# Altium footprint library HyTechDevices.PCBLIB: 204 footprints (part 6 of 13)
Each footprint in its own frame and in the unit in brackets; x right, y up, seen from the top. Pads: shape width x height; smd on the part's side, far side on the other; paste and mask are expansions set on the pad; w line width, h text height; cw(c..) or ccw(c..) is an arc to the next point about the centre after c.
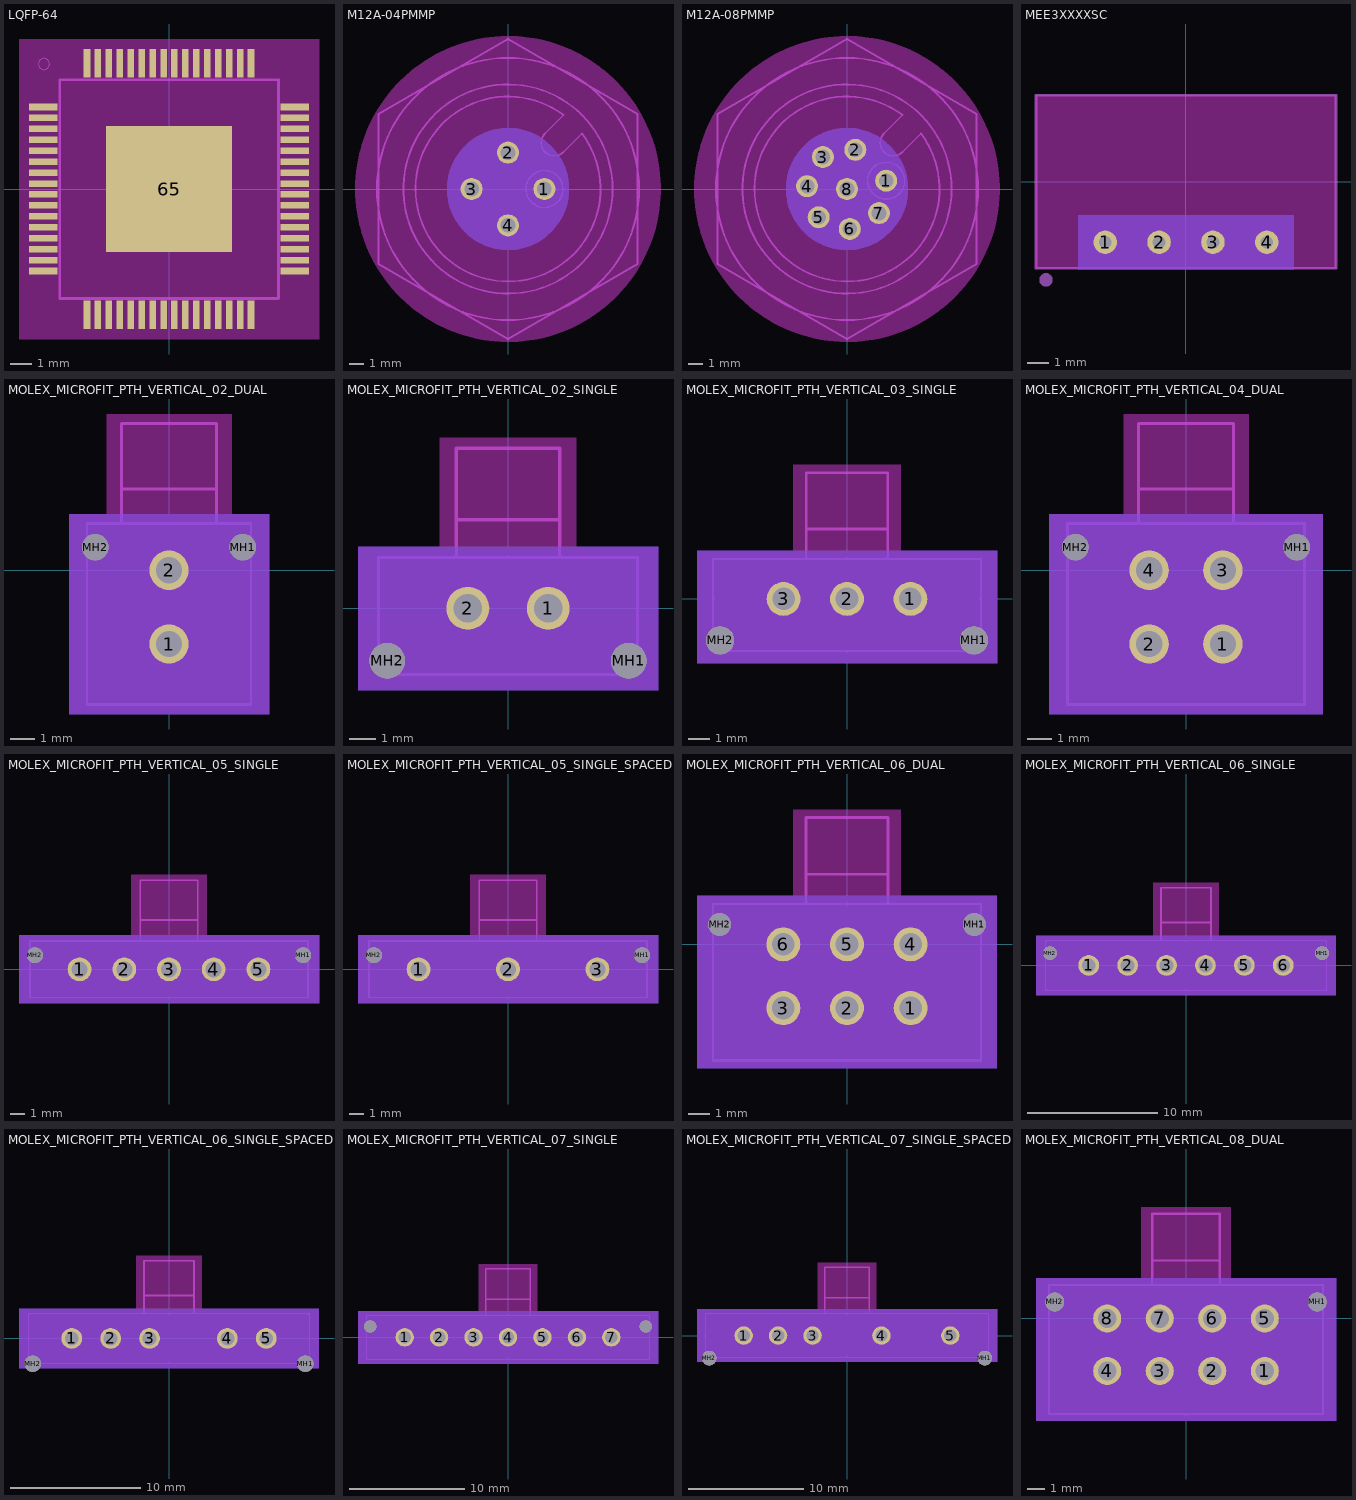
[diagram p5: the footprints below, top view; thin cyan lines are the x and y axes]

## LQFP-64 [mil]
pads (65):
  rect 51.18x11.81 smd: 1(-226.38,147.64) 2(-226.38,127.95) 3(-226.38,108.27) 4(-226.38,88.58) 5(-226.38,68.9) 6(-226.38,49.21) 7(-226.38,29.53) 8(-226.38,9.84) 9(-226.38,-9.84) 10(-226.38,-29.53) 11(-226.38,-49.21) 12(-226.38,-68.9) 13(-226.38,-88.58) 14(-226.38,-108.27) 15(-226.38,-127.95) 16(-226.38,-147.64) 33(226.38,-147.64) 34(226.38,-127.95) 35(226.38,-108.27) 36(226.38,-88.58) 37(226.38,-68.9) 38(226.38,-49.21) 39(226.38,-29.53) 40(226.38,-9.84) 41(226.38,9.84) 42(226.38,29.53) 43(226.38,49.21) 44(226.38,68.9) 45(226.38,88.58) 46(226.38,108.27) 47(226.38,127.95) 48(226.38,147.64)
  rect 11.81x51.18 smd: 17(-147.64,-226.38) 18(-127.95,-226.38) 19(-108.27,-226.38) 20(-88.58,-226.38) 21(-68.9,-226.38) 22(-49.21,-226.38) 23(-29.53,-226.38) 24(-9.84,-226.38) 25(9.84,-226.38) 26(29.53,-226.38) 27(49.21,-226.38) 28(68.9,-226.38) 29(88.58,-226.38) 30(108.27,-226.38) 31(127.95,-226.38) 32(147.64,-226.38) 49(147.64,226.38) 50(127.95,226.38) 51(108.27,226.38) 52(88.58,226.38) 53(68.9,226.38) 54(49.21,226.38) 55(29.53,226.38) 56(9.84,226.38) 57(-9.84,226.38) 58(-29.53,226.38) 59(-49.21,226.38) 60(-68.9,226.38) 61(-88.58,226.38) 62(-108.27,226.38) 63(-127.95,226.38) 64(-147.64,226.38)
  rect 225.98x225.98 smd: 65(0,0)
Top keep-out:
  region: -270,-270 -270,270 270,270 270,-270
tPlace:
  circle w0: c-225,225 r10
  lines w5: -196.85,-196.85 196.85,-196.85 196.85,196.85 -196.85,196.85 -196.85,-196.85

## M12A-04PMMP [mm]
pads (4):
  round 1.508 hole 1: 1(2.5,0) 2(0,2.5) 3(-2.5,0) 4(0,-2.5)
Top keep-out:
  circle w10.5: c0,0 r5.25
Bottom keep-out:
  circle w4.2: c0,0 r2.1
tPlace:
  circle w0.127: c0,0 r9
  circle w0.127: c0,0 r7.184
  circle w0.127: c2.5,0 r1.27
  lines w0.127: -8.89,-5.15 0,-10.3 8.89,-5.15 8.89,5.15 0,10.3 -8.89,5.15 -8.89,-5.15 ; 2.54,3.81 3.81,5.08 ccw(c0,0) 5.08,3.81 3.81,2.54 cw(c3.175,3.175) 2.54,3.81

## M12A-08PMMP [mm]
pads (8):
  round 1.508 hole 1: 1(2.69,0.572) 2(0.572,2.69) 3(-1.655,2.196) 4(-2.743,0.192) 5(-1.945,-1.945) 6(0.192,-2.743) 7(2.196,-1.655) 8(0,0)
Top keep-out:
  circle w10.5: c0,0 r5.25
Bottom keep-out:
  circle w4.2: c0,0 r2.1
tPlace:
  circle w0.127: c0,0 r9
  circle w0.127: c0,0 r7.184
  circle w0.127: c2.69,0.572 r1.27
  lines w0.127: -8.89,-5.15 0,-10.3 8.89,-5.15 8.89,5.15 0,10.3 -8.89,5.15 -8.89,-5.15 ; 2.54,3.81 3.81,5.08 ccw(c0,0) 5.08,3.81 3.81,2.54 cw(c3.175,3.175) 2.54,3.81

## MEE3XXXXSC [mil]
pads (4):
  round 43.62 hole 23.62: 1(-150,-112.2) 2(-50,-112.2) 3(50,-112.2) 4(150,-112.2)
Top keep-out:
  region: -278.54,-160.43 -278.54,160.43 278.54,160.43 278.54,-160.43
Bottom keep-out:
  region: -200,-162.2 -200,-62.2 200,-62.2 200,-162.2
tPlace:
  circle w15: c-260,-182.2 r5
  lines w5: -278.54,-160.43 278.54,-160.43 278.54,160.43 -278.54,160.43 -278.54,-160.43

## MOLEX_MICROFIT_PTH_VERTICAL_02_DUAL [mil]
pads (4):
  round 63 hole 42: 1(0,-118) 2(0,0)
  round 42 hole 42 unplated: MH1(118,37) MH2(-118,37)
Top keep-out:
  region: -160,-230 -160,90 160,90 160,-230
  region: -100,90 -100,250 100,250 100,90
Bottom keep-out:
  region: -160,-230 -160,90 160,90 160,-230
tPlace:
  lines w5: -76,75 76,75 ; -76,75 -131,75 -131,-215 131,-215 131,75 76,75 ; -76,75 -76,130 ; -76,130 76,130 ; -76,130 -76,235 76,235 76,130 ; 76,75 76,130

## MOLEX_MICROFIT_PTH_VERTICAL_02_SINGLE [mil]
pads (4):
  round 63 hole 42: 1(59,0) 2(-59,0)
  round 52 hole 52 unplated: MH1(177,-77) MH2(-177,-77)
Top keep-out:
  region: -220,-120 -220,90 220,90 220,-120
  region: -100,90 -100,250 100,250 100,90
Bottom keep-out:
  region: -220,-120 -220,90 220,90 220,-120
tPlace:
  lines w5: -76,75 76,75 ; -76,75 -190,75 -190,-97 190,-97 190,75 76,75 ; -76,75 -76,130 ; -76,130 76,130 ; -76,130 -76,235 76,235 76,130 ; 76,75 76,130

## MOLEX_MICROFIT_PTH_VERTICAL_03_SINGLE [mil]
pads (5):
  round 63 hole 42: 1(118,0) 2(0,0) 3(-118,0)
  round 52 hole 52 unplated: MH1(236,-77) MH2(-236,-77)
Top keep-out:
  region: -279,-120 -279,90 279,90 279,-120
  region: -100,90 -100,250 100,250 100,90
Bottom keep-out:
  region: -279,-120 -279,90 279,90 279,-120
tPlace:
  lines w5: -76,75 76,75 ; -76,75 -249,75 -249,-97 249,-97 249,75 76,75 ; -76,75 -76,130 ; -76,130 76,130 ; -76,130 -76,235 76,235 76,130 ; 76,75 76,130

## MOLEX_MICROFIT_PTH_VERTICAL_04_DUAL [mil]
pads (6):
  round 63 hole 42: 1(59,-118) 2(-59,-118) 3(59,0) 4(-59,0)
  round 42 hole 42 unplated: MH1(177,37) MH2(-177,37)
Top keep-out:
  region: -219,-230 -219,90 219,90 219,-230
  region: -100,90 -100,250 100,250 100,90
Bottom keep-out:
  region: -219,-230 -219,90 219,90 219,-230
tPlace:
  lines w5: -76,75 76,75 ; -76,75 -190,75 -190,-215 190,-215 190,75 76,75 ; -76,75 -76,130 ; -76,130 76,130 ; -76,130 -76,235 76,235 76,130 ; 76,75 76,130

## MOLEX_MICROFIT_PTH_VERTICAL_05_SINGLE [mil]
pads (7):
  round 63 hole 42: 1(-236,0) 2(-118,0) 3(0,0) 4(118,0) 5(236,0)
  round 42 hole 42 unplated: MH1(354,37) MH2(-354,37)
Top keep-out:
  region: -396,-90 -396,90 396,90 396,-90
  region: -100,90 -100,250 100,250 100,90
Bottom keep-out:
  region: -396,-90 -396,90 396,90 396,-90
tPlace:
  lines w5: -76,75 76,75 ; -76,75 -367,75 -367,-75 367,-75 367,75 76,75 ; -76,75 -76,130 ; -76,130 76,130 ; -76,130 -76,235 76,235 76,130 ; 76,75 76,130

## MOLEX_MICROFIT_PTH_VERTICAL_05_SINGLE_SPACED [mil]
pads (5):
  round 63 hole 42: 1(-236,0) 2(0,0) 3(236,0)
  round 42 hole 42 unplated: MH1(354,37) MH2(-354,37)
Top keep-out:
  region: -396,-90 -396,90 396,90 396,-90
  region: -100,90 -100,250 100,250 100,90
Bottom keep-out:
  region: -396,-90 -396,90 396,90 396,-90
tPlace:
  lines w5: -76,75 76,75 ; -76,75 -367,75 -367,-75 367,-75 367,75 76,75 ; -76,75 -76,130 ; -76,130 76,130 ; -76,130 -76,235 76,235 76,130 ; 76,75 76,130

## MOLEX_MICROFIT_PTH_VERTICAL_06_DUAL [mil]
pads (8):
  round 63 hole 42: 1(118,-118) 2(0,-118) 3(-118,-118) 4(118,0) 5(0,0) 6(-118,0)
  round 42 hole 42 unplated: MH1(236,37) MH2(-236,37)
Top keep-out:
  region: -278,-230 -278,90 278,90 278,-230
  region: -100,90 -100,250 100,250 100,90
Bottom keep-out:
  region: -278,-230 -278,90 278,90 278,-230
tPlace:
  lines w5: -76,75 76,75 ; -76,75 -249,75 -249,-215 249,-215 249,75 76,75 ; -76,75 -76,130 ; -76,130 76,130 ; -76,130 -76,235 76,235 76,130 ; 76,75 76,130

## MOLEX_MICROFIT_PTH_VERTICAL_06_SINGLE [mil]
pads (8):
  round 63 hole 42: 1(-295,0) 2(-177,0) 3(-59,0) 4(59,0) 5(177,0) 6(295,0)
  round 42 hole 42 unplated: MH1(413,37) MH2(-413,37)
Top keep-out:
  region: -455,-90 -455,90 455,90 455,-90
  region: -100,90 -100,250 100,250 100,90
Bottom keep-out:
  region: -455,-90 -455,90 455,90 455,-90
tPlace:
  lines w5: -76,75 76,75 ; -76,75 -426,75 -426,-75 426,-75 426,75 76,75 ; -76,75 -76,130 ; -76,130 76,130 ; -76,130 -76,235 76,235 76,130 ; 76,75 76,130

## MOLEX_MICROFIT_PTH_VERTICAL_06_SINGLE_SPACED [mil]
pads (7):
  round 63 hole 42: 1(-295,0) 2(-177,0) 3(-59,0) 4(177,0) 5(295,0)
  round 50 hole 50 unplated: MH1(413.5,-77) MH2(-413.5,-77)
Top keep-out:
  region: -455,-90 -455,90 455,90 455,-90
  region: -100,90 -100,250 100,250 100,90
Bottom keep-out:
  region: -455,-90 -455,90 455,90 455,-90
tPlace:
  lines w5: -76,75 76,75 ; -76,75 -426,75 -426,-75 426,-75 426,75 76,75 ; -76,75 -76,130 ; -76,130 76,130 ; -76,130 -76,235 76,235 76,130 ; 76,75 76,130

## MOLEX_MICROFIT_PTH_VERTICAL_07_SINGLE [mil]
pads (9):
  round 63 hole 42: 1(-354,0) 2(-236,0) 3(-118,0) 4(0,0) 5(118,0) 6(236,0) 7(354,0)
  round 42 hole 42 unplated: MH1(472,37) MH2(-472,37)
Top keep-out:
  region: -514,-90 -514,90 514,90 514,-90
  region: -100,90 -100,250 100,250 100,90
Bottom keep-out:
  region: -514,-90 -514,90 514,90 514,-90
tPlace:
  lines w5: -76,75 76,75 ; -76,75 -485,75 -485,-75 485,-75 485,75 76,75 ; -76,75 -76,130 ; -76,130 76,130 ; -76,130 -76,235 76,235 76,130 ; 76,75 76,130

## MOLEX_MICROFIT_PTH_VERTICAL_07_SINGLE_SPACED [mil]
pads (7):
  round 63 hole 42: 1(-354,0) 2(-236,0) 3(-118,0) 4(118,0) 5(354,0)
  round 50 hole 50 unplated: MH1(472.5,-77) MH2(-472.5,-77)
Top keep-out:
  region: -514,-90 -514,90 514,90 514,-90
  region: -100,90 -100,250 100,250 100,90
Bottom keep-out:
  region: -514,-90 -514,90 514,90 514,-90
tPlace:
  lines w5: -76,75 76,75 ; -76,75 -485,75 -485,-75 485,-75 485,75 76,75 ; -76,75 -76,130 ; -76,130 76,130 ; -76,130 -76,235 76,235 76,130 ; 76,75 76,130

## MOLEX_MICROFIT_PTH_VERTICAL_08_DUAL [mil]
pads (10):
  round 63 hole 42: 1(177,-118) 2(59,-118) 3(-59,-118) 4(-177,-118) 5(177,0) 6(59,0) 7(-59,0) 8(-177,0)
  round 42 hole 42 unplated: MH1(295,37) MH2(-295,37)
Top keep-out:
  region: -337,-230 -337,90 337,90 337,-230
  region: -100,90 -100,250 100,250 100,90
Bottom keep-out:
  region: -337,-230 -337,90 337,90 337,-230
tPlace:
  lines w5: -76,75 76,75 ; -76,75 -308,75 -308,-215 308,-215 308,75 76,75 ; -76,75 -76,130 ; -76,130 76,130 ; -76,130 -76,235 76,235 76,130 ; 76,75 76,130